# Altium schematic symbol library Resistors.SchLib: 12 symbols
Pins are listed as number, name and electrical type; pins without a type are passive.

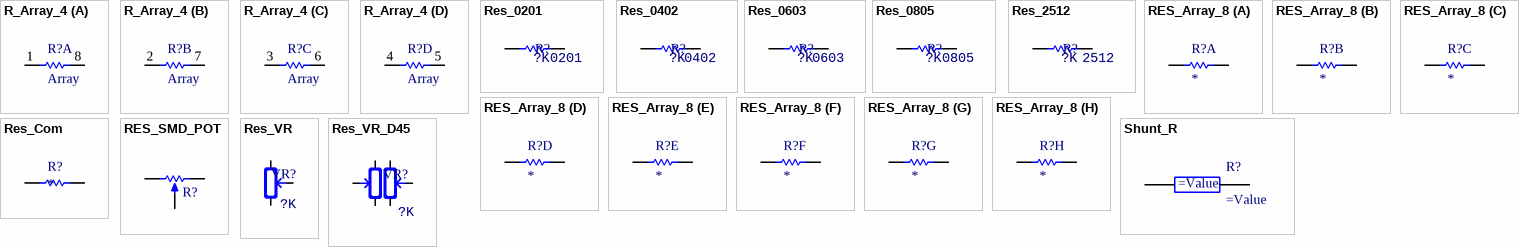
[diagram p0: symbols R_Array_4 to Shunt_R]

## R_Array_4
designator R?, comment Array
footprint R---YC124
part A pins: 1, 8
part B pins: 2 1, 7
part C pins: 3, 6
part D pins: 4, 5

## Res_0201
designator R?, comment Type: 0201  (hidden comment: ?K)
Resistor; Specification: ±5%; Manufacturer: *; Value: ?K
footprint RES_0201
pins: 1, 2

## Res_0402
designator R?, comment Type: 0402  (hidden comment: ?K)
Resistor; Specification: ±5%; Manufacturer: *; Value: ?K
footprint RES_0402
pins: 1, 2

## Res_0603
designator R?, comment Type: 0603  (hidden comment: ?K)
Resistor; Specification: ±5%; Manufacturer: *; Value: ?K
footprint RES_0603
pins: 1, 2

## Res_0805
designator R?, comment Type: 0805  (hidden comment: ?K)
Resistor; Specification: ±5%; Manufacturer: *; Value: ?K
footprint RES_0805
pins: 1, 2

## Res_2512
designator R?, comment Type: 2512  (hidden comment: ?K)
Resistor; Specification: ±5%; Manufacturer: *; Value: ?K
footprint RES_2512
pins: 1, 2

## RES_Array_8
designator R?
footprint YC248
part A pins: 1, 16
part B pins: 2, 15
part C pins: 3, 14
part D pins: 4, 13
part E pins: 5, 12
part F pins: 6, 11
part G pins: 7, 10
part H pins: 8, 9

## Res_Com
designator R?
footprint 1K Ohm (RESISTENCIA DE 1/4 W DE 1K OHM)
pins: 1, 2

## RES_SMD_POT
designator R?
RESISTOR, SMD, Potentiometer
footprint POTS_3MM (POT SMD, 3.0X3.0mm, Trimming PVG3A PVZ3A)
footprint POTS_3214W (POT SMD, 4.0X5.0mm, Trimming SM-42/43W 3214W)
footprint POTS_3314G (POT SMD, 5.0X5.0mm, Trimming, 3314G)
footprint POTS_5MM (POT SMD, 5.0X5.0mm, Trimming PVG5H)
pins: 1 TOP, 2 TAP, 3 BOT

## Res_VR
designator VR?, comment value ?K  (hidden comment: VR)
Resistor Variable; Specification: ±5%; Manufacturer: *
footprint RES_VR_Gear
pins: 1, 2, 3

## Res_VR_D45
designator VR?, comment value ?K  (hidden comment: VR)
Resistor Variable; Specification: ±5%; Manufacturer: *
footprint RES_VR_D45mm
pins: 1 U, 2 W, 3 U, 4 W, 5 D, 6 D

## Shunt_R
designator R?
ROHM - PSR400ITQFL3L00 - RES, METAL STRIP, 0.003OHM, 4W, 3921; Manufacturer_Name: ROHM Semiconductor; Geometry.Height: 2mm; Manufacturer_Part_Number: PSR400ITQFL3L00; RS Part Number: *; RS Price/Stock: *; Arrow Part Number: PSR400ITQFL3L00; Arrow Price/Stock: *; Datasheet Link: http://www.farnell.com/datasheets/1909337.pdf
footprint RES_2512
pins: 1, 2